# EAGLE library part CD4066BCM (library Fairchild_By_element14_Batch_1)
Quad Bilateral Switch
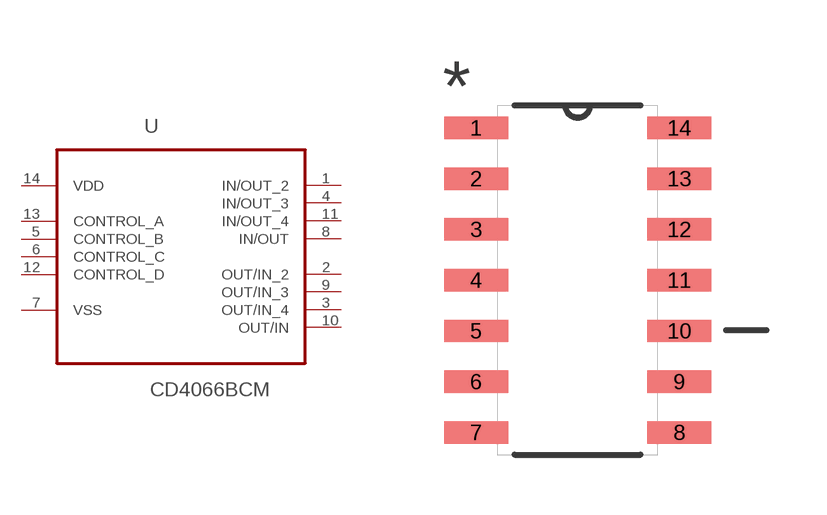
[diagram p167: symbol with the pads of SOIC127P600X175-14N; footprint SOIC127P600X175-14N]

Designator prefix U

## CD4066BCM (MPN: CD4066BCM; OC_FARNELL: 1014066; OC_NEWARK: 34C7907; PACKAGE: SOIC-14; SUPPLIER: Fairchild)  [SOIC127P600X175-14N]
1  IN/OUT_2
2  OUT/IN_2
3  OUT/IN_4
4  IN/OUT_3
5  CONTROL_B  in
6  CONTROL_C  in
7  VSS  pwr
8  IN/OUT
9  OUT/IN_3
10  OUT/IN
11  IN/OUT_4
12  CONTROL_D  in
13  CONTROL_A  in
14  VDD  pwr

## Footprint SOIC127P600X175-14N (pad centres in mm)
smd 1.6 x 0.559: 1 -2.54,3.81; 2 -2.54,2.54; 3 -2.54,1.27; 4 -2.54,0; 5 -2.54,-1.27; 6 -2.54,-2.54; 7 -2.54,-3.81; 8 2.54,-3.81; 9 2.54,-2.54; 10 2.54,-1.27; 11 2.54,0; 12 2.54,1.27; 13 2.54,2.54; 14 2.54,3.81